# Altium footprint library ESP8266二版.PcbLib: 16 footprints
Each footprint in its own frame and in the unit in brackets; x right, y up, seen from the top. Pads: shape width x height; smd on the part's side, far side on the other; paste and mask are expansions set on the pad; w line width, h text height; cw(c..) or ccw(c..) is an arc to the next point about the centre after c.
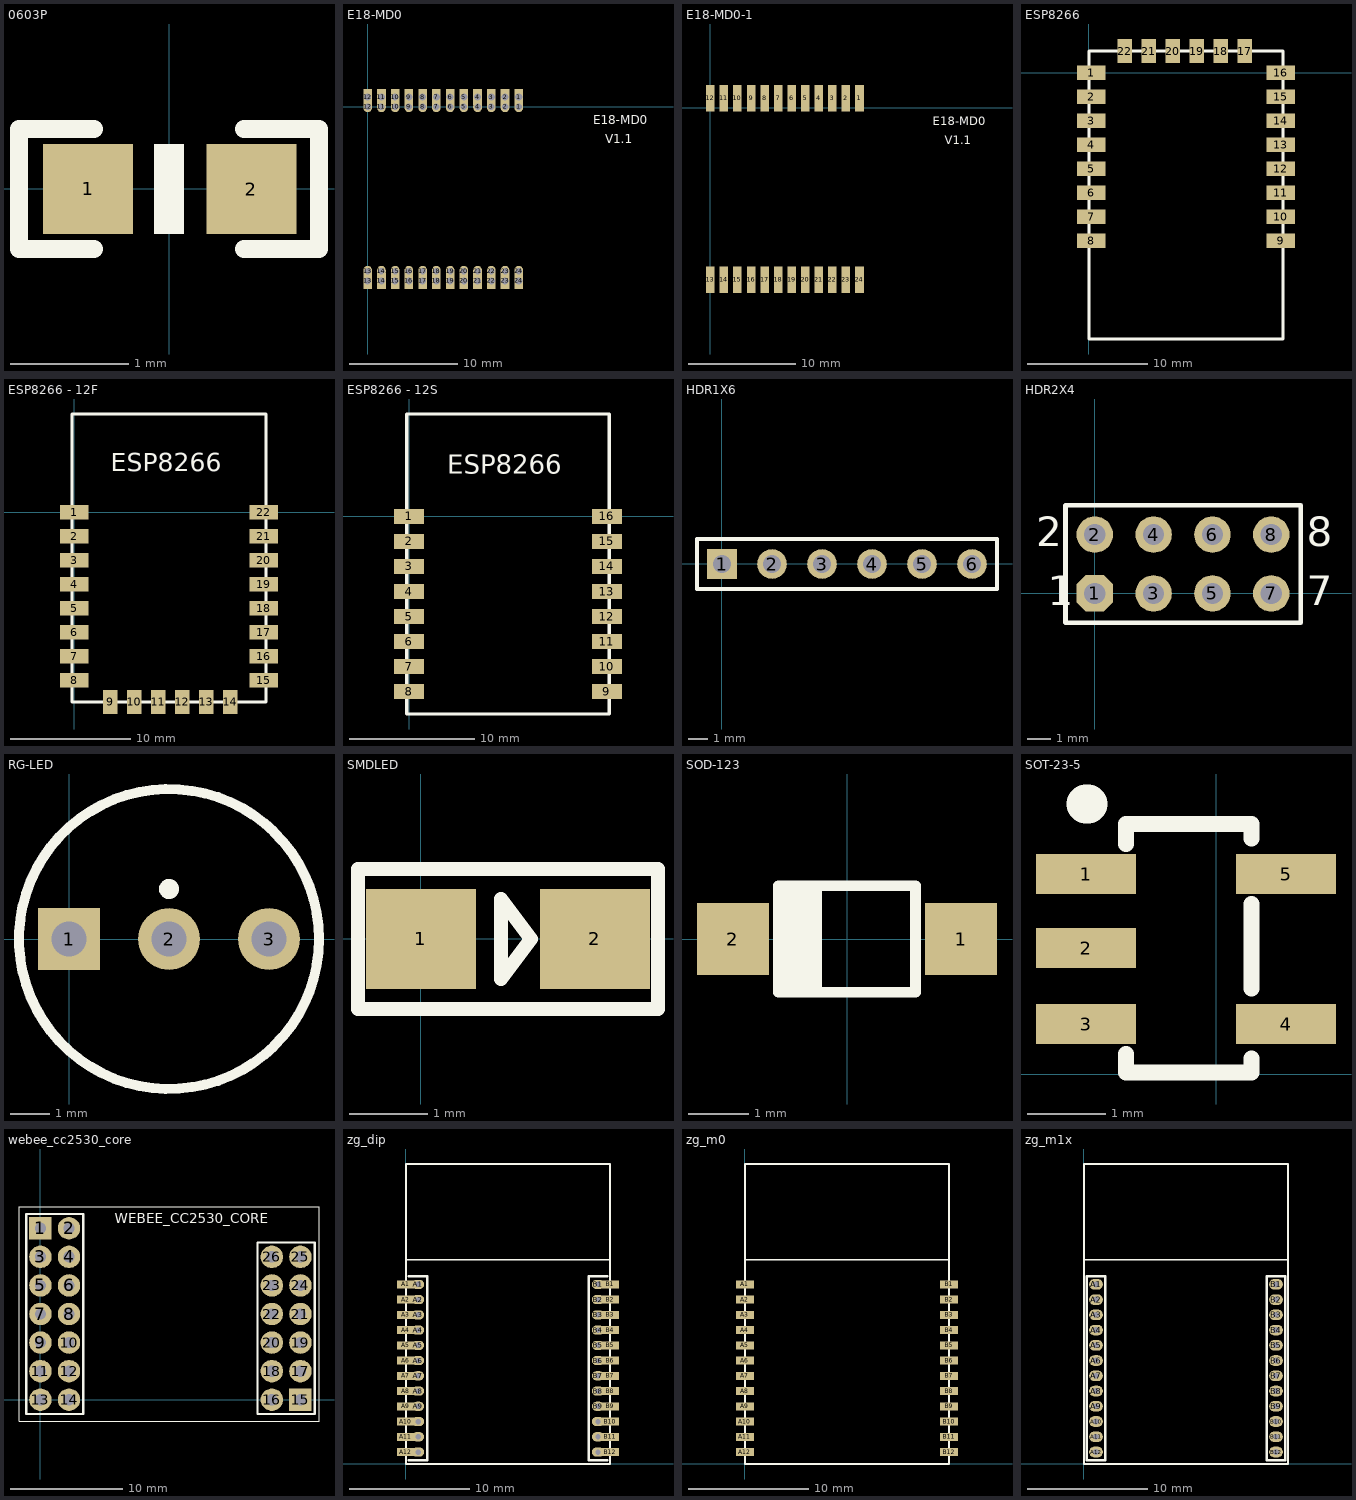
[diagram p0: the footprints below, top view; thin cyan lines are the x and y axes]

## 0603P [mil]
pads (2):
  rect 30x30 smd: 1(-27,0) 2(27.5,-0.06)
Top Overlay:
  region: 5,-15.06 5,14.94 -5,14.94 -5,-15.06
  lines w6: -25,-20.06 -50,-20.06 -50,19.94 -25,19.94 ; 25,-20.06 50,-20.06 50,19.94 25,19.94

## E18-MD0 [mm] "Connector; Header; 8 Position"
pads (48):
  oval 0.8x1 hole 0.6: 1(13.97,0) 2(12.7,0) 3(11.43,0) 4(10.16,0) 5(8.89,0) 6(7.62,0) 7(6.35,0) 8(5.08,0) 9(3.81,0) 10(2.54,0) 11(1.27,0) 12(0,0) 13(0,-15.2) 14(1.27,-15.2) 15(2.54,-15.2) 16(3.81,-15.2) 17(5.08,-15.2) 18(6.35,-15.2) 19(7.62,-15.2) 20(8.89,-15.2) 21(10.16,-15.2) 22(11.43,-15.2) 23(12.7,-15.2) 24(13.97,-15.2)
  rect 0.8x1.5 hole 0.65: 1(13.97,0.9) 2(12.7,0.9) 3(11.43,0.9) 4(10.16,0.9) 5(8.89,0.9) 6(7.62,0.9) 7(6.35,0.9) 8(5.08,0.9) 9(3.81,0.9) 10(2.54,0.9) 11(1.27,0.9) 12(0,0.9) 13(0,-16.1) 14(1.27,-16.1) 15(2.54,-16.1) 16(3.81,-16.1) 17(5.08,-16.1) 18(6.35,-16.1) 19(7.62,-16.1) 20(8.89,-16.1) 21(10.16,-16.1) 22(11.43,-16.1) 23(12.7,-16.1) 24(13.97,-16.1)
Top Layer:
  lines w0.22: 0.11,-15.53 0.116,-15.53 ccw(c0.116,-15.496) 0.14,-15.52
Top Overlay:
  text "V1.1" at 21.97,-3.39 h0.8
  text "E18-MD0" at 20.84,-1.62 h0.8
Bottom Overlay:
  lines w0.2: -0.9,-14.34 -0.9,-0.8 ; 14.87,-16.1 14.87,-14.3 -0.9,-14.3 -0.9,-16.1 26.85,-16.1 26.85,0.9 -0.9,0.9 -0.9,-0.9 14.87,-0.9 14.87,0.9

## E18-MD0-1 [mm] "Connector; Header; 8 Position"
pads (24):
  rect 0.8x2.5 all layers, no hole: 1(13.97,0.9) 2(12.7,0.9) 3(11.43,0.9) 4(10.16,0.9) 5(8.89,0.9) 6(7.62,0.9) 7(6.35,0.9) 8(5.08,0.9) 9(3.81,0.9) 10(2.54,0.9) 11(1.27,0.9) 12(0,0.9) 13(0,-16.1) 14(1.27,-16.1) 15(2.54,-16.1) 16(3.81,-16.1) 17(5.08,-16.1) 18(6.35,-16.1) 19(7.62,-16.1) 20(8.89,-16.1) 21(10.16,-16.1) 22(11.43,-16.1) 23(12.7,-16.1) 24(13.97,-16.1)
Top Layer:
  lines w0.22: 0.11,-15.53 0.116,-15.53 ccw(c0.116,-15.496) 0.14,-15.52
Top Overlay:
  text "V1.1" at 21.97,-3.39 h0.8
  text "E18-MD0" at 20.84,-1.62 h0.8
Bottom Overlay:
  lines w0.2: -0.9,-14.34 -0.9,-0.8 ; 14.87,-16.1 14.87,-14.3 -0.9,-14.3 -0.9,-16.1 26.85,-16.1 26.85,0.9 -0.9,0.9 -0.9,-0.9 14.87,-0.9 14.87,0.9

## ESP8266 [mm]
pads (22):
  rect 2.4x1.2 smd: 1(0.2,0) 2(0.2,-2) 3(0.2,-4) 4(0.2,-6) 5(0.2,-8) 6(0.2,-10) 7(0.2,-12) 8(0.2,-14) 9(16,-14) 10(16,-12) 11(16,-10) 12(16,-8) 13(16,-6) 14(16,-4) 15(16,-2) 16(16,0)
  rect 1.2x2 smd: 17(13,1.8) 18(11,1.8) 19(9,1.8) 20(7,1.8) 21(5,1.8) 22(3,1.8)
Top Overlay:
  lines w0.254: 0,-22.2 0,1.8 16.2,1.8 16.2,-22.2 0,-22.2

## ESP8266 - 12F [mm]
pads (22):
  rect 2.4x1.2 smd: 1(0,0) 2(0,-2) 3(0,-4) 4(0,-6) 5(0,-8) 6(0,-10) 7(0,-12) 8(0,-14) 15(15.8,-14) 16(15.8,-12) 17(15.8,-10) 18(15.8,-8) 19(15.8,-6) 20(15.8,-4) 21(15.8,-2) 22(15.8,0)
  rect 1.2x2 smd: 9(3,-15.8) 10(5,-15.8) 11(7,-15.8) 12(9,-15.8) 13(11,-15.8) 14(13,-15.8)
Top Overlay:
  lines w0.254: -0.2,-15.8 -0.2,8.2 16,8.2 16,-15.8 -0.2,-15.8
  text "ESP8266" at 3.048,3.429 h1.52

## ESP8266 - 12S [mm]
pads (16):
  rect 2.4x1.2 smd: 1(0,0) 2(0,-2) 3(0,-4) 4(0,-6) 5(0,-8) 6(0,-10) 7(0,-12) 8(0,-14) 9(15.8,-14) 10(15.8,-12) 11(15.8,-10) 12(15.8,-8) 13(15.8,-6) 14(15.8,-4) 15(15.8,-2) 16(15.8,0)
Top Overlay:
  lines w0.254: -0.2,-15.8 16,-15.8 16,8.2 -0.2,8.2 -0.2,-15.8
  text "ESP8266" at 3.048,3.429 h1.52

## HDR1X6 [mm]
pads (6):
  rect 1.5x1.5 hole 0.9: 1(0,0)
  round 1.5 hole 0.9: 2(2.54,0) 3(5.08,0) 4(7.62,0) 5(10.16,0) 6(12.7,0)
Top Overlay:
  lines w0.2: -1.27,-1.27 -1.27,1.27 13.97,1.27 13.97,-1.27 -1.27,-1.27

## HDR2X4 [mil]
pads (8):
  oct 62x62 hole 36: 1(0,0)
  round 62 hole 36: 2(0,100) 3(100,0) 4(100,100) 5(200,0) 6(200,100) 7(300,0) 8(300,100)
Top Overlay:
  lines w8: -50,-50 350,-50 350,150 -50,150 -50,-50
  text "2" at -100,80 h50
  text "1" at -80,-20 h50
  text "7" at 360,-20 h50
  text "8" at 360,80 h50

## RG-LED [mil]
pads (3):
  rect 62x62 hole 35: 1(0,0)
  round 62 hole 35: 2(100,0) 3(200,0)
Top Overlay:
  circle w10: c100,0 r150
  circle w10: c100,50 r5

## SMDLED [mm]
pads (2):
  rect 1.4x1.27 smd: 1(0.001,-0.002) 2(2.211,-0.002)
Top Overlay:
  lines w0.178: 3.012,0.887 3.011,0.887 ; 3.011,0.887 -0.799,0.887 -0.799,-0.002 -0.799,-0.891 3.011,-0.891 3.011,0.887 ; 1.017,-0.51 1.398,-0.002 1.017,0.506 1.017,-0.51

## SOD-123 [mm]
pads (2):
  rect 1.2x1.2 smd: 1(1.905,0) 2(-1.905,0)
Top Overlay:
  rectangle: -1.143,-0.889 -0.508,0.889
  lines w0.178: -0.508,-0.889 -0.508,0.889 ; -1.143,-0.889 -1.143,0.889 1.143,0.889 1.143,0.445 1.143,-0.445 1.143,-0.889 -1.143,-0.889

## SOT-23-5 [mil]
pads (5):
  rect 50x20 smd: 1(-65,100) 2(-65,63) 3(-65,25) 4(35,25) 5(35,100)
Top Overlay:
  lines w8: -45,10 -45,0.68 17.76,0.68 17.76,7.76 ; -45,115 -45,125 17.76,125 17.76,117.76 ; 17.76,42.76 17.76,85
  lines w19.68: -65,135 -64,135

## webee_cc2530_core [mm]
height 1.27
pads (26):
  rect 2x2 hole 1: 1(0,15.24) 15(23.114,0)
  round 2 hole 1: 2(2.54,15.24) 3(0,12.7) 4(2.54,12.7) 5(0,10.16) 6(2.54,10.16) 7(0,7.62) 8(2.54,7.62) 9(0,5.08) 10(2.54,5.08) 11(0,2.54) 12(2.54,2.54) 13(0,0) 14(2.54,0) 16(20.574,0) 17(23.114,2.54) 18(20.574,2.54) 19(23.114,5.08) 20(20.574,5.08) 21(23.114,7.62) 22(20.574,7.62) 23(20.574,10.16) 24(23.114,10.16) 25(23.114,12.7) 26(20.574,12.7)
Top Overlay:
  lines w0.1: -1.905,-1.905 -1.905,17.145 24.765,17.145 24.765,-1.905 -1.27,-1.905 -1.905,-1.905
  lines w0.2: -1.27,-1.27 3.81,-1.27 3.81,16.51 -1.27,16.51 -1.27,-1.27 ; 19.304,-1.27 24.384,-1.27 24.384,13.97 19.304,13.97 19.304,-1.27
  text "WEBEE_CC2530_CORE" at 6.604,15.367 h1.52

## zg_dip [mil]
height 50
pads (48):
  rect 60x26 smd: A1(0,589) A2(0,539) A3(0,489) A4(0,439) A5(0,389) A6(0,339) A7(0,289) A8(0,239) A9(0,189) A10(0,139) A11(0,89) A12(0,39) B1(669.29,589) B2(669.29,539) B3(669.29,489) B4(669.29,439) B5(669.29,389) B6(669.29,339) B7(669.29,289) B8(669.29,239) B9(669.29,189) B10(669.29,139) B11(669.29,89) B12(669.29,39)
  oval 40x30 hole 18: A1(39.54,589.3) A2(39.54,539.3) A3(39.54,489.3) A4(39.54,439.3) A5(39.54,389.3) A6(39.54,339.3) A7(39.54,289.3) A8(39.54,239.3) A9(39.54,189.3) A10(39.54,139.3) A11(39.54,89.3) A12(39.54,39.3) B1(629.91,589.3) B2(629.91,539.3) B3(629.91,489.3) B4(629.91,439.3) B5(629.91,389.3) B6(629.91,339.3) B7(629.91,289.3) B8(629.91,239.3) B9(629.91,189.3) B10(629.91,139.3) B11(629.91,89.3) B12(629.91,39.3)
Top Overlay:
  lines w6: 0,670 666.29,670 ; 669.29,0 0,0 0,984.15 669.29,984.15 669.29,0.79
  lines w8: 9.54,12.3 69.54,12.3 69.54,616.3 9.54,616.3 ; 659.91,12.3 599.91,12.3 599.91,616.3 659.91,616.3

## zg_m0 [mil]
height 50
pads (24):
  rect 60x26 smd: A1(0,589) A2(0,539) A3(0,489) A4(0,439) A5(0,389) A6(0,339) A7(0,289) A8(0,239) A9(0,189) A10(0,139) A11(0,89) A12(0,39) B1(669.29,589) B2(669.29,539) B3(669.29,489) B4(669.29,439) B5(669.29,389) B6(669.29,339) B7(669.29,289) B8(669.29,239) B9(669.29,189) B10(669.29,139) B11(669.29,89) B12(669.29,39)
Top Overlay:
  lines w6: 0,670 666.29,670 ; 669.29,0 0,0 0,984.15 669.29,984.15 669.29,0.79

## zg_m1x [mil]
height 50
pads (24):
  oval 45x35 hole 19: A1(39.54,589.3) A2(39.54,539.3) A3(39.54,489.3) A4(39.54,439.3) A5(39.54,389.3) A6(39.54,339.3) A7(39.54,289.3) A8(39.54,239.3) A9(39.54,189.3) A10(39.54,139.3) A11(39.54,89.3) A12(39.54,39.3) B1(629.91,589.3) B2(629.91,539.3) B3(629.91,489.3) B4(629.91,439.3) B5(629.91,389.3) B6(629.91,339.3) B7(629.91,289.3) B8(629.91,239.3) B9(629.91,189.3) B10(629.91,139.3) B11(629.91,89.3) B12(629.91,39.3)
Top Overlay:
  lines w6: 0,670 666.29,670 ; 669.29,0 0,0 0,984.15 669.29,984.15 669.29,0.79
  lines w8: 9.54,12.3 9.54,616.3 69.54,616.3 69.54,12.3 9.54,12.3 ; 599.91,12.3 599.91,616.3 659.91,616.3 659.91,12.3 599.91,12.3